# Altium footprint library murata-filter.PCBLIB: 4 footprints
Each footprint in its own frame and in the unit in brackets; x right, y up, seen from the top. Pads: shape width x height; smd on the part's side, far side on the other; paste and mask are expansions set on the pad; w line width, h text height; cw(c..) or ccw(c..) is an arc to the next point about the centre after c.
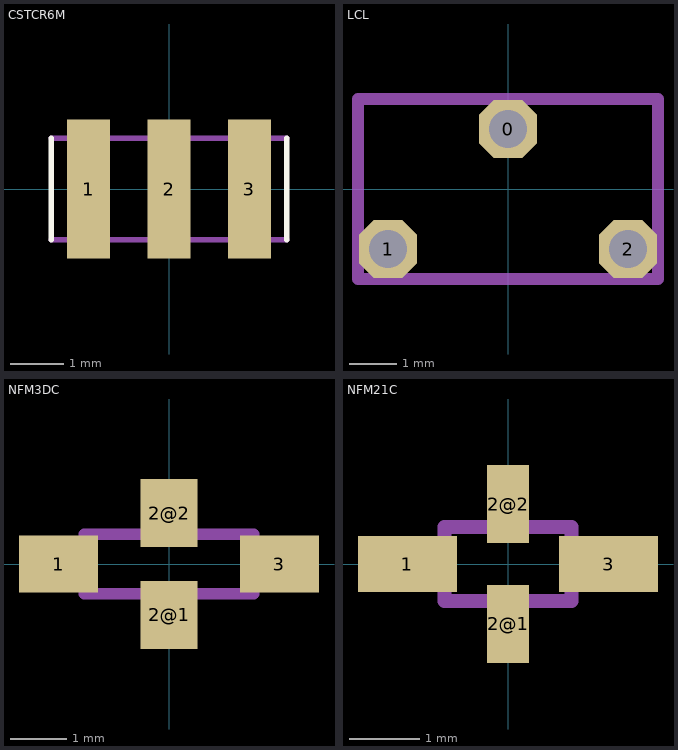
[diagram p0: the footprints below, top view; thin cyan lines are the x and y axes]

## CSTCR6M [mil]
pads (3):
  rect 31.5x102.36 smd: 1(-59.06,0) 2(0,0) 3(59.06,0)
Top Overlay:
  lines w4: -86.61,-37.4 -86.61,37.4 ; 86.61,-37.4 86.61,37.4
Top Paste:
  rectangle: -66.93,-31.5 -51.18,31.5
  rectangle: -7.87,-31.5 7.87,31.5
  rectangle: 51.18,-31.5 66.93,31.5
Top Solder:
  rectangle: -15.75,31.5 15.75,51.18
  region: 15.75,-31.5 -15.75,-31.5 -15.75,-51.18 15.75,-51.18
  rectangle: -7.87,-31.5 7.87,31.5
  rectangle: -74.8,31.5 -43.31,51.18
  region: -43.31,-31.5 -74.8,-31.5 -74.8,-51.18 -43.31,-51.18
  rectangle: -66.93,-31.5 -51.18,31.5
  rectangle: 43.31,31.5 74.8,51.18
  region: 74.8,-31.5 43.31,-31.5 43.31,-51.18 74.8,-51.18
  rectangle: 51.18,-31.5 66.93,31.5
Mechanical 16:
  lines w4: -86.61,-37.4 86.61,-37.4 ; -86.61,37.4 86.61,37.4

## LCL [mil]
pads (3):
  oct 48x48 hole 32: 0(0,50) 1(-100,-50) 2(100,-50)
Mechanical 16:
  lines w10: -125,-75 -125,75 125,75 125,-75 -125,-75

## NFM3DC [mm]
pads (4):
  rect 1.4x1 smd: 1(-1.95,0) 3(1.95,0)
  rect 1x1.2 smd: 2@1(0,-0.9) 2@2(0,0.9)
Mechanical 16:
  lines w0.203: -1.5,-0.525 1.5,-0.525 1.5,0.525 -1.5,0.525 -1.5,-0.525

## NFM21C [mil]
pads (4):
  rect 55.12x31.5 smd: 1(-56.1,0) 3(56.1,0)
  rect 23.62x43.31 smd: 2@1(0,-33.46) 2@2(0,33.46)
Mechanical 16:
  lines w8: -35.43,-20.67 35.43,-20.67 35.43,20.67 -35.43,20.67 -35.43,-20.67